# Altium schematic symbol library CLV1L-FKB.Schlib: 1 symbol
Pins are listed as number, name and electrical type; pins without a type are passive.

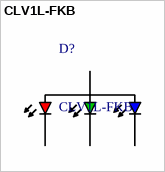
[diagram p0: symbol CLV1L-FKB]

## CLV1L-FKB
designator D?
pins: 1 A, 2 CRED, 3 CGREEN, 4 CBLUE